# Altium footprint library Connector.PcbLib: 5 footprints
Each footprint in its own frame and in the unit in brackets; x right, y up, seen from the top. Pads: shape width x height; smd on the part's side, far side on the other; paste and mask are expansions set on the pad; w line width, h text height; cw(c..) or ccw(c..) is an arc to the next point about the centre after c.
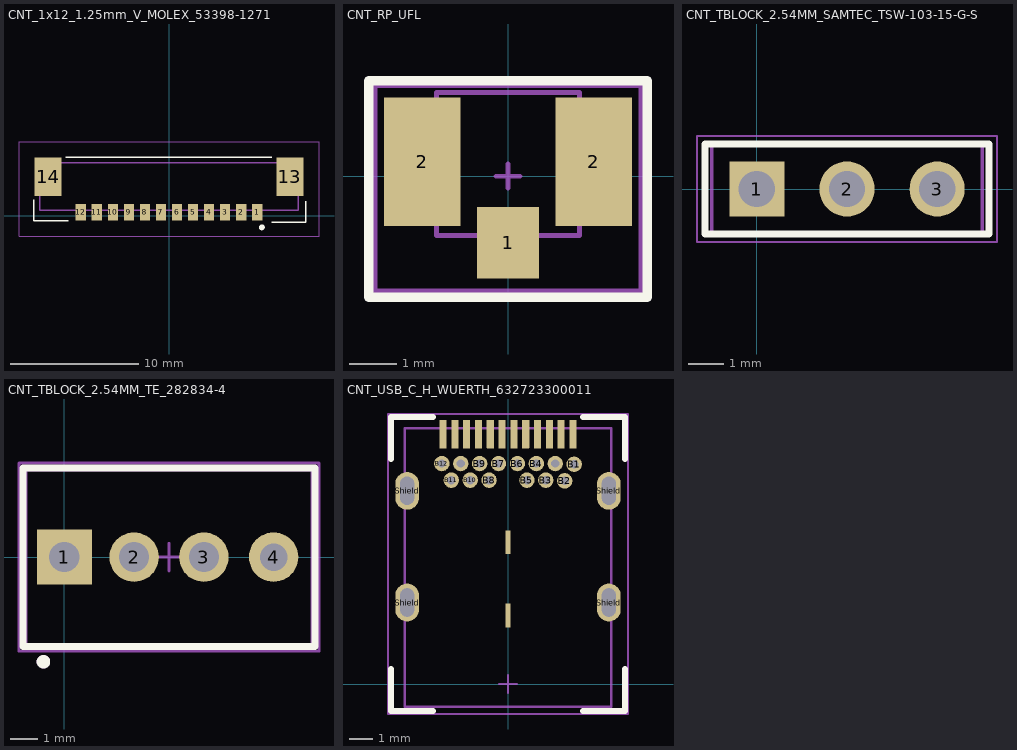
[diagram p0: the footprints below, top view; thin cyan lines are the x and y axes]

## CNT_1x12_1.25mm_V_MOLEX_53398-1271 [mm]
pads (14):
  rect 0.8x1.3 smd: 1(6.875,0.3) 2(5.625,0.3) 3(4.375,0.3) 4(3.125,0.3) 5(1.875,0.3) 6(0.625,0.3) 7(-0.625,0.3) 8(-1.875,0.3) 9(-3.125,0.3) 10(-4.375,0.3) 11(-5.625,0.3) 12(-6.875,0.3)
  rect 2.1x3 smd: 13(9.425,3.05) 14(-9.425,3.05)
Top Overlay:
  circle w0.254: c7.239,-0.889 r0.102
  lines w0.1: -10.541,1.27 -10.541,-0.381 -7.874,-0.381 ; -8.049,4.571 8.001,4.572 ; 8.001,-0.508 10.668,-0.508 10.668,1.143
Mechanical 1:
  lines w0.127: -10.075,0.45 10.075,0.45 10.075,4.15 -10.075,4.15 -10.075,0.45
  text ".Designator" at -2.029,2.111 h1.5
Mechanical 15:
  lines w0.05: -11.694,-1.569 11.694,-1.569 11.694,5.769 -11.694,5.769 -11.694,-1.569
3D body "533981271.stp": height 4.7, standoff 0, extent -10.075,0 10.075,4.2

## CNT_RP_UFL [mm]
pads (3):
  rect 1.3x1.5 smd: 1(0,-1.4)
  rect 1.6x2.7 smd: 2(-1.8,0.3) 2(1.8,0.3)
Top Overlay:
  lines w0.203: -2.921,-2.54 -2.921,2 2.921,2 2.921,-2.54 -2.921,-2.54
Mechanical 1:
  lines w0.1: -1.5,-1.246 -1.5,1.754 1.5,1.754 1.5,-1.246 -1.5,-1.246
  text ".Designator" at 0,0.113 h0.6
Mechanical 15:
  lines w0.1: -0.254,0 0.254,0 ; 0,-0.254 0,0.254 ; -2.794,-2.413 2.794,-2.413 2.794,1.905 -2.794,1.905 -2.794,-2.413
3D body "RECE-20279-001E-01.stp": height 1.34, standoff 0, extent -1.5,-1.246 1.5,1.754

## CNT_TBLOCK_2.54MM_SAMTEC_TSW-103-15-G-S [mm]
pads (3):
  rect 1.55x1.55 hole 1.02: 1(0,0)
  round 1.55 hole 1.02: 2(2.54,0) 3(5.08,0)
Top Overlay:
  lines w0.2: -1.46,-1.27 -1.46,1.27 6.54,1.27 6.54,-1.27 -1.46,-1.27
Mechanical 1:
  lines w0.1: -1.27,-1.27 6.35,-1.27 6.35,1.27 -1.27,1.27 -1.27,-1.27
  text ".Designator" at 2.54,0.113 h0.6
Mechanical 13:
  lines w0.1: -1.46,-1.27 -1.46,1.27 6.54,1.27 6.54,-1.27 -1.46,-1.27
Mechanical 15:
  lines w0.05: -1.685,-1.495 -1.685,1.495 6.765,1.495 6.765,-1.495 -1.685,-1.495
  lines w0.1: 2.011,-0.021 3.027,-0.021 ; 2.54,-0.508 2.54,0.508
3D body "TSW-103-07-X-S.step": height 8.38, standoff -2.54, extent -1.27,-1.27 6.35,1.27

## CNT_TBLOCK_2.54MM_TE_282834-4 [mm]
pads (4):
  rect 2x2 hole 1.1: 1(0,0)
  round 1.8 hole 1.1: 2(2.54,0) 3(5.08,0)
  round 1.8 hole 1: 4(7.62,0)
Top Overlay:
  circle w0.254: c-0.762,-3.81 r0.12
  lines w0.25: -1.5,-3.25 -1.5,3.25 9.12,3.25 9.12,-3.25 -1.5,-3.25
Mechanical 1:
  circle w0.254: c-0.762,-3.81 r0.12
  lines w0.1: -1.397,-3.175 9.017,-3.175 9.017,3.175 -1.397,3.175 -1.397,-3.175
  text ".Designator" at 3.81,0.155 h1.5
Mechanical 15:
  lines w0.1: 3.302,0 4.318,0 ; 3.81,-0.508 3.81,0.508 ; -1.651,-3.429 -1.651,3.429 9.271,3.429 9.271,-3.429 -1.651,-3.429
3D body "TE 282834-4.step": height 10, standoff -3.4, extent -1.5,-3.25 9.12,3.25

## CNT_USB_C_H_WUERTH_632723300011 [mm]
pads (32):
  rrect1% 0.2x1 smd: 1(0,2.9) 1(0,6)
  rrect1% 0.3x1.2 smd paste+0 mask+0.05: A1(-2.75,10.58) A2(-2.25,10.58) A3(-1.75,10.58) A4(-1.25,10.58) A5(-0.75,10.58) A7(0.25,10.58) A8(0.75,10.58) A9(1.25,10.58) A10(1.75,10.58) A11(2.25,10.58) A12(2.75,10.58)
  rrect1% 0.3x1.2 smd mask+0.05: A6(-0.25,10.58)
  round 0.65 hole 0.35 paste-2539.97 mask+0.05: B1(2.8,9.3) B2(2.4,8.6) B4(1.2,9.33) B5(0.8,8.63) B6(0.4,9.33) B7(-0.4,9.33) B8(-0.8,8.63) GND1(2,9.33) GND2(-2,9.33)
  round 0.65 hole 0.35 mask+0.05: B3(1.6,8.63) B9(-1.2,9.33) B10(-1.6,8.63) B11(-2.4,8.63) B12(-2.8,9.33)
  oval 1x1.6 hole 0.6 slot 1.2 at 90 deg: Shield(-4.27,3.45) Shield(-4.27,8.18) Shield(4.27,3.45) Shield(4.27,8.18)
Top Overlay:
  lines w0.25: -4.953,0.635 -4.953,-1.143 -3.175,-1.143 ; -4.953,9.525 -4.953,11.303 -3.175,11.303 ; 3.175,-1.143 4.953,-1.143 4.953,0.635 ; 3.175,11.303 4.953,11.303 4.953,9.525
Mechanical 1:
  lines w0.1: -4.37,-0.964 4.37,-0.964 4.37,10.83 -4.37,10.83 -4.37,-0.964
  text ".Designator" at 0.127,4.812 h0.6
Mechanical 15:
  lines w0.1: -0.381,0 0.381,0 ; 0,-0.381 0,0.381 ; -5.08,-1.27 -5.08,11.43 5.08,11.43 5.08,-1.27 -5.08,-1.27
3D body "STP_632723300011_rev1.stp": height 3.03, standoff -1.83, extent -4.37,-0.964 4.37,10.83